# Altium integrated library Micron Memory Parallel NOR Flash.IntLib: 720 symbols (part 110 of 216)
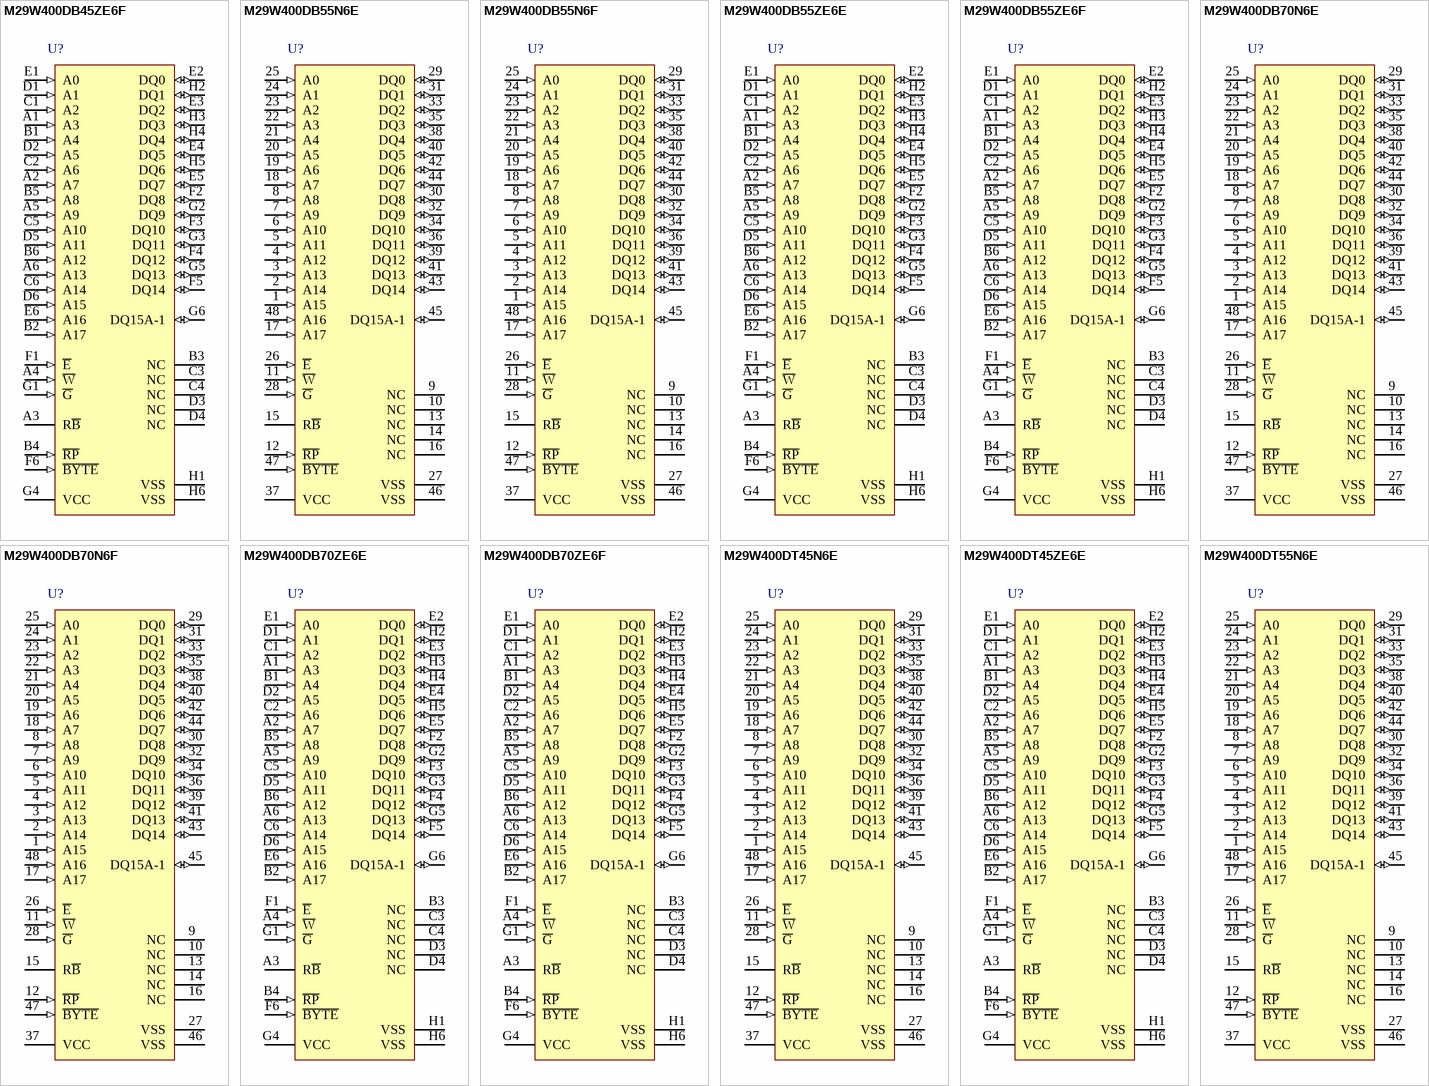
[diagram p153: symbols M29W400DB45ZE6F to M29W400DT55N6E]

## M29W400DB70ZE6E
designator U?
4 Mb (x8/x16) Parallel NOR Flash Memory, 70 ns, 2.7 to 3.6 V, 48-ball TFBGA (ZE), Tray; Part Family: M29W; Manufacturer: Micron; PartNumber: M29W400DB70ZE6E; Density: 4Mb; Op Temp: -40C to +85C; Speed: 70ns; Voltage: 2.7V-3.6V; DatasheetVersion: Rev. 8; PackageVersion: Rev 11; PackageReference: MICT-ZE-48; PackageDescription: 48-Ball TFBGA, 8 X 6 mm, Pitch 0.8 mm; RoHS: Yes; Width: x8/x16; Mounting Technology: Surface Mount; ComponentLink1Description: Manufacturer URL; ComponentLink1URL: http://www.micron.com/; ComponentLink2Description: Datasheet; ComponentLink2URL: http://www.micron.com/~/media/Documents/Products/Data%20Sheet/NOR%20Flash/Parallel/P33/208034_P33_65nm_SBC_64M_128M_Discrete_DS.pdf; ComponentLink3Description: Package Specification; ComponentLink3URL: http://www.micron.com/~/media/Documents/Products/Data%20Sheet/NOR%20Flash/Parallel/P30/306666_P30_130nm_Discrete_DS.pdf
footprint MICT-ZE-48 (BGA, 48-Balls, Body 8x6mm, Pitch 0.8 mm)
pins: A1 A3 (in) "Address input: The Address input select the cells in the memory array to access during Bus Read operations. During Bus Write operations they control the commands sent to the command interface of the Program/Erase controller.", A2 A7 (in) "Address input: The Address input select the cells in the memory array to access during Bus Read operations. During Bus Write operations they control the commands sent to the command interface of the Program/Erase controller.", A3 R~{B} (hiz) "Ready/Busy output: The Ready/Busy pin is an open-drain output that can be used to identify when the memory array can be read. Ready/Busy is high-impedance during Read mode, Auto Select mode and Erase Suspend mode. After a (See Datasheet)", A4 ~{W} (in) "Write Enable: The Write Enable, W\, controls the Bus Write operation of the memory’s command interface.", A5 A9 (in) "Address input: The Address input select the cells in the memory array to access during Bus Read operations. During Bus Write operations they control the commands sent to the command interface of the Program/Erase controller.", A6 A13 (in) "Address input: The Address input select the cells in the memory array to access during Bus Read operations. During Bus Write operations they control the commands sent to the command interface of the Program/Erase controller.", B1 A4 (in) "Address input: The Address input select the cells in the memory array to access during Bus Read operations. During Bus Write operations they control the commands sent to the command interface of the Program/Erase controller.", B2 A17 (in) "Address input: The Address input select the cells in the memory array to access during Bus Read operations. During Bus Write operations they control the commands sent to the command interface of the Program/Erase controller.", B3 NC "Not connected.", B4 ~{RP} (in) "Reset/Block Temporary Unprotect: The Reset/Block Temporary Unprotect pin can be used to apply a hardware reset to the memory or to temporarily unprotect all blocks that have been protected. A hardware reset is achieved by (See Datasheet)", B5 A8 (in) "Address input: The Address input select the cells in the memory array to access during Bus Read operations. During Bus Write operations they control the commands sent to the command interface of the Program/Erase controller.", B6 A12 (in) "Address input: The Address input select the cells in the memory array to access during Bus Read operations. During Bus Write operations they control the commands sent to the command interface of the Program/Erase controller.", C1 A2 (in) "Address input: The Address input select the cells in the memory array to access during Bus Read operations. During Bus Write operations they control the commands sent to the command interface of the Program/Erase controller.", C2 A6 (in) "Address input: The Address input select the cells in the memory array to access during Bus Read operations. During Bus Write operations they control the commands sent to the command interface of the Program/Erase controller.", C3 NC "Not connected.", C4 NC "Not connected.", C5 A10 (in) "Address input: The Address input select the cells in the memory array to access during Bus Read operations. During Bus Write operations they control the commands sent to the command interface of the Program/Erase controller.", C6 A14 (in) "Address input: The Address input select the cells in the memory array to access during Bus Read operations. During Bus Write operations they control the commands sent to the command interface of the Program/Erase controller.", D1 A1 (in) "Address Input: The Address Input select the cells in the memory array to access during Bus Read operations. During Bus Write operations they control the commands sent to the command interface of the Program/Erase controller.", D2 A5 (in) "Address input: The Address input select the cells in the memory array to access during Bus Read operations. During Bus Write operations they control the commands sent to the command interface of the Program/Erase controller.", D3 NC "Not connected.", D4 NC "Not connected.", D5 A11 (in) "Address input: The Address input select the cells in the memory array to access during Bus Read operations. During Bus Write operations they control the commands sent to the command interface of the Program/Erase controller.", D6 A15 (in) "Address input: The Address input select the cells in the memory array to access during Bus Read operations. During Bus Write operations they control the commands sent to the command interface of the Program/Erase controller.", E1 A0 (in) "Address input: The Address input select the cells in the memory array to access during Bus Read operations. During Bus Write operations they control the commands sent to the command interface of the Program/Erase controller.", E2 DQ0 (io) "Data input/output: The Data input/output output the data stored at the selected address during a Bus Read operation. During Bus Write operations they represent the commands sent to the command interface of the Program/Erase (See Datasheet)", E3 DQ2 (io) "Data input/output: The Data input/output output the data stored at the selected address during a Bus Read operation. During Bus Write operations they represent the commands sent to the command interface of the Program/Erase (See Datasheet)", E4 DQ5 (io) "Data input/output: The Data input/output output the data stored at the selected address during a Bus Read operation. During Bus Write operations they represent the commands sent to the command interface of the Program/Erase (See Datasheet)", E5 DQ7 (io) "Data input/output: The Data input/output output the data stored at the selected address during a Bus Read operation. During Bus Write operations they represent the commands sent to the command interface of the Program/Erase (See Datasheet)", E6 A16 (in) "Address input: The Address input select the cells in the memory array to access during Bus Read operations. During Bus Write operations they control the commands sent to the command interface of the Program/Erase controller.", F1 ~{E} (in) "Chip Enable: The Chip Enable, E\, activates the memory, allowing Bus Read and Bus Write operations to be performed. When Chip Enable is High, VIH, all other pins are ignored.", F2 DQ8 (io) "Data input/output: The Data input/output output the data stored at the selected address during a Bus Read operation when B\Y\T\E\ is High, VIH. When B\Y\T\E\ is Low, VIL, these pins are not used and are high impedance. (See Datasheet)", F3 DQ10 (io) "Data input/output: The Data input/output output the data stored at the selected address during a Bus Read operation when B\Y\T\E\ is High, VIH. When B\Y\T\E\ is Low, VIL, these pins are not used and are high impedance. (See Datasheet)", F4 DQ12 (io) "Data input/output: The Data input/output output the data stored at the selected address during a Bus Read operation when B\Y\T\E\ is High, VIH. When B\Y\T\E\ is Low, VIL, these pins are not used and are high impedance. (See Datasheet)", F5 DQ14 (io) "Data input/output: The Data input/output output the data stored at the selected address during a Bus Read operation when B\Y\T\E\ is High, VIH. When B\Y\T\E\ is Low, VIL, these pins are not used and are high impedance. (See Datasheet)", F6 ~{BYTE} (in) "Byte/Word Organization Select: The Byte/Word Organization Select pin is used to switch between the 8-bit and 16-bit Bus modes of the memory. When Byte/Word Organization Select is Low, VIL, the memory is in 8- bit mode, when (See Datasheet)", G1 ~{G} (in) "Output Enable: The Output Enable, G\, controls the Bus Read operation of the memory.", G2 DQ9 (io) "Data input/output: The Data input/output output the data stored at the selected address during a Bus Read operation when B\Y\T\E\ is High, VIH. When B\Y\T\E\ is Low, VIL, these pins are not used and are high impedance. (See Datasheet)", G3 DQ11 (io) "Data input/output: The Data input/output output the data stored at the selected address during a Bus Read operation when B\Y\T\E\ is High, VIH. When B\Y\T\E\ is Low, VIL, these pins are not used and are high impedance. (See Datasheet)", G4 VCC (power) "VCC supply voltage: The VCC supply voltage supplies the power for all operations (Read, Program, Erase etc.). The command interface is disabled when the VCC supply voltage is less than the lockout voltage, VLKO. This (See Datasheet)", G5 DQ13 (io) "Data input/output: The Data input/output output the data stored at the selected address during a Bus Read operation when B\Y\T\E\ is High, VIH. When B\Y\T\E\ is Low, VIL, these pins are not used and are high impedance. (See Datasheet)", G6 DQ15A-1 (io) "Data input/output or Address input: When B\Y\T\E\ is High, VIH, this pin behaves as a Data input/output pin (as DQ8-DQ14). When B\Y\T\E\ is Low, VIL, this pin behaves as an address pin; DQ15A-1 Low will select the LSB of the (See Datasheet)", H1 VSS (power) "VSS ground: The VSS ground is the reference for all voltage measurements.", H2 DQ1 (io) "Data input/output: The Data input/output output the data stored at the selected address during a Bus Read operation. During Bus Write operations they represent the commands sent to the command interface of the Program/Erase (See Datasheet)", H3 DQ3 (io) "Data input/output: The Data input/output output the data stored at the selected address during a Bus Read operation. During Bus Write operations they represent the commands sent to the command interface of the Program/Erase (See Datasheet)", H4 DQ4 (io) "Data input/output: The Data input/output output the data stored at the selected address during a Bus Read operation. During Bus Write operations they represent the commands sent to the command interface of the Program/Erase (See Datasheet)", H5 DQ6 (io) "Data input/output: The Data input/output output the data stored at the selected address during a Bus Read operation. During Bus Write operations they represent the commands sent to the command interface of the Program/Erase (See Datasheet)", H6 VSS (power) "VSS ground: The VSS ground is the reference for all voltage measurements."

## M29W400DB70ZE6F
designator U?
4 Mb (x8/x16) Parallel NOR Flash Memory, 70 ns, 2.7 to 3.6 V, 48-ball TFBGA (ZE), Tape & Reel; Part Family: M29W; Manufacturer: Micron; PartNumber: M29W400DB70ZE6F; Density: 4Mb; Op Temp: -40C to +85C; Speed: 70ns; Voltage: 2.7V-3.6V; DatasheetVersion: Rev. 8; PackageVersion: Rev 11; PackageReference: MICT-ZE-48; PackageDescription: 48-Ball TFBGA, 8 X 6 mm, Pitch 0.8 mm; RoHS: Yes; Width: x8/x16; Mounting Technology: Surface Mount; ComponentLink1Description: Manufacturer URL; ComponentLink1URL: http://www.micron.com/; ComponentLink2Description: Datasheet; ComponentLink2URL: http://www.micron.com/~/media/Documents/Products/Data%20Sheet/NOR%20Flash/Parallel/P33/208034_P33_65nm_SBC_64M_128M_Discrete_DS.pdf; ComponentLink3Description: Package Specification; ComponentLink3URL: http://www.micron.com/~/media/Documents/Products/Data%20Sheet/NOR%20Flash/Parallel/P30/306666_P30_130nm_Discrete_DS.pdf
footprint MICT-ZE-48 (BGA, 48-Balls, Body 8x6mm, Pitch 0.8 mm)
pins: A1 A3 (in) "Address input: The Address input select the cells in the memory array to access during Bus Read operations. During Bus Write operations they control the commands sent to the command interface of the Program/Erase controller.", A2 A7 (in) "Address input: The Address input select the cells in the memory array to access during Bus Read operations. During Bus Write operations they control the commands sent to the command interface of the Program/Erase controller.", A3 R~{B} (hiz) "Ready/Busy output: The Ready/Busy pin is an open-drain output that can be used to identify when the memory array can be read. Ready/Busy is high-impedance during Read mode, Auto Select mode and Erase Suspend mode. After a (See Datasheet)", A4 ~{W} (in) "Write Enable: The Write Enable, W\, controls the Bus Write operation of the memory’s command interface.", A5 A9 (in) "Address input: The Address input select the cells in the memory array to access during Bus Read operations. During Bus Write operations they control the commands sent to the command interface of the Program/Erase controller.", A6 A13 (in) "Address input: The Address input select the cells in the memory array to access during Bus Read operations. During Bus Write operations they control the commands sent to the command interface of the Program/Erase controller.", B1 A4 (in) "Address input: The Address input select the cells in the memory array to access during Bus Read operations. During Bus Write operations they control the commands sent to the command interface of the Program/Erase controller.", B2 A17 (in) "Address input: The Address input select the cells in the memory array to access during Bus Read operations. During Bus Write operations they control the commands sent to the command interface of the Program/Erase controller.", B3 NC "Not connected.", B4 ~{RP} (in) "Reset/Block Temporary Unprotect: The Reset/Block Temporary Unprotect pin can be used to apply a hardware reset to the memory or to temporarily unprotect all blocks that have been protected. A hardware reset is achieved by (See Datasheet)", B5 A8 (in) "Address input: The Address input select the cells in the memory array to access during Bus Read operations. During Bus Write operations they control the commands sent to the command interface of the Program/Erase controller.", B6 A12 (in) "Address input: The Address input select the cells in the memory array to access during Bus Read operations. During Bus Write operations they control the commands sent to the command interface of the Program/Erase controller.", C1 A2 (in) "Address input: The Address input select the cells in the memory array to access during Bus Read operations. During Bus Write operations they control the commands sent to the command interface of the Program/Erase controller.", C2 A6 (in) "Address input: The Address input select the cells in the memory array to access during Bus Read operations. During Bus Write operations they control the commands sent to the command interface of the Program/Erase controller.", C3 NC "Not connected.", C4 NC "Not connected.", C5 A10 (in) "Address input: The Address input select the cells in the memory array to access during Bus Read operations. During Bus Write operations they control the commands sent to the command interface of the Program/Erase controller.", C6 A14 (in) "Address input: The Address input select the cells in the memory array to access during Bus Read operations. During Bus Write operations they control the commands sent to the command interface of the Program/Erase controller.", D1 A1 (in) "Address Input: The Address Input select the cells in the memory array to access during Bus Read operations. During Bus Write operations they control the commands sent to the command interface of the Program/Erase controller.", D2 A5 (in) "Address input: The Address input select the cells in the memory array to access during Bus Read operations. During Bus Write operations they control the commands sent to the command interface of the Program/Erase controller.", D3 NC "Not connected.", D4 NC "Not connected.", D5 A11 (in) "Address input: The Address input select the cells in the memory array to access during Bus Read operations. During Bus Write operations they control the commands sent to the command interface of the Program/Erase controller.", D6 A15 (in) "Address input: The Address input select the cells in the memory array to access during Bus Read operations. During Bus Write operations they control the commands sent to the command interface of the Program/Erase controller.", E1 A0 (in) "Address input: The Address input select the cells in the memory array to access during Bus Read operations. During Bus Write operations they control the commands sent to the command interface of the Program/Erase controller.", E2 DQ0 (io) "Data input/output: The Data input/output output the data stored at the selected address during a Bus Read operation. During Bus Write operations they represent the commands sent to the command interface of the Program/Erase (See Datasheet)", E3 DQ2 (io) "Data input/output: The Data input/output output the data stored at the selected address during a Bus Read operation. During Bus Write operations they represent the commands sent to the command interface of the Program/Erase (See Datasheet)", E4 DQ5 (io) "Data input/output: The Data input/output output the data stored at the selected address during a Bus Read operation. During Bus Write operations they represent the commands sent to the command interface of the Program/Erase (See Datasheet)", E5 DQ7 (io) "Data input/output: The Data input/output output the data stored at the selected address during a Bus Read operation. During Bus Write operations they represent the commands sent to the command interface of the Program/Erase (See Datasheet)", E6 A16 (in) "Address input: The Address input select the cells in the memory array to access during Bus Read operations. During Bus Write operations they control the commands sent to the command interface of the Program/Erase controller.", F1 ~{E} (in) "Chip Enable: The Chip Enable, E\, activates the memory, allowing Bus Read and Bus Write operations to be performed. When Chip Enable is High, VIH, all other pins are ignored.", F2 DQ8 (io) "Data input/output: The Data input/output output the data stored at the selected address during a Bus Read operation when B\Y\T\E\ is High, VIH. When B\Y\T\E\ is Low, VIL, these pins are not used and are high impedance. (See Datasheet)", F3 DQ10 (io) "Data input/output: The Data input/output output the data stored at the selected address during a Bus Read operation when B\Y\T\E\ is High, VIH. When B\Y\T\E\ is Low, VIL, these pins are not used and are high impedance. (See Datasheet)", F4 DQ12 (io) "Data input/output: The Data input/output output the data stored at the selected address during a Bus Read operation when B\Y\T\E\ is High, VIH. When B\Y\T\E\ is Low, VIL, these pins are not used and are high impedance. (See Datasheet)", F5 DQ14 (io) "Data input/output: The Data input/output output the data stored at the selected address during a Bus Read operation when B\Y\T\E\ is High, VIH. When B\Y\T\E\ is Low, VIL, these pins are not used and are high impedance. (See Datasheet)", F6 ~{BYTE} (in) "Byte/Word Organization Select: The Byte/Word Organization Select pin is used to switch between the 8-bit and 16-bit Bus modes of the memory. When Byte/Word Organization Select is Low, VIL, the memory is in 8- bit mode, when (See Datasheet)", G1 ~{G} (in) "Output Enable: The Output Enable, G\, controls the Bus Read operation of the memory.", G2 DQ9 (io) "Data input/output: The Data input/output output the data stored at the selected address during a Bus Read operation when B\Y\T\E\ is High, VIH. When B\Y\T\E\ is Low, VIL, these pins are not used and are high impedance. (See Datasheet)", G3 DQ11 (io) "Data input/output: The Data input/output output the data stored at the selected address during a Bus Read operation when B\Y\T\E\ is High, VIH. When B\Y\T\E\ is Low, VIL, these pins are not used and are high impedance. (See Datasheet)", G4 VCC (power) "VCC supply voltage: The VCC supply voltage supplies the power for all operations (Read, Program, Erase etc.). The command interface is disabled when the VCC supply voltage is less than the lockout voltage, VLKO. This (See Datasheet)", G5 DQ13 (io) "Data input/output: The Data input/output output the data stored at the selected address during a Bus Read operation when B\Y\T\E\ is High, VIH. When B\Y\T\E\ is Low, VIL, these pins are not used and are high impedance. (See Datasheet)", G6 DQ15A-1 (io) "Data input/output or Address input: When B\Y\T\E\ is High, VIH, this pin behaves as a Data input/output pin (as DQ8-DQ14). When B\Y\T\E\ is Low, VIL, this pin behaves as an address pin; DQ15A-1 Low will select the LSB of the (See Datasheet)", H1 VSS (power) "VSS ground: The VSS ground is the reference for all voltage measurements.", H2 DQ1 (io) "Data input/output: The Data input/output output the data stored at the selected address during a Bus Read operation. During Bus Write operations they represent the commands sent to the command interface of the Program/Erase (See Datasheet)", H3 DQ3 (io) "Data input/output: The Data input/output output the data stored at the selected address during a Bus Read operation. During Bus Write operations they represent the commands sent to the command interface of the Program/Erase (See Datasheet)", H4 DQ4 (io) "Data input/output: The Data input/output output the data stored at the selected address during a Bus Read operation. During Bus Write operations they represent the commands sent to the command interface of the Program/Erase (See Datasheet)", H5 DQ6 (io) "Data input/output: The Data input/output output the data stored at the selected address during a Bus Read operation. During Bus Write operations they represent the commands sent to the command interface of the Program/Erase (See Datasheet)", H6 VSS (power) "VSS ground: The VSS ground is the reference for all voltage measurements."

## M29W400DT45N6E
designator U?
4 Mb (x8/x16) Parallel NOR Flash Memory, 45 ns, 2.7 to 3.6 V, 48-pin TSOP (N), Tray; Part Family: M29W; Manufacturer: Micron; PartNumber: M29W400DT45N6E; Density: 4Mb; Op Temp: -40C to +85C; Speed: 45ns; Voltage: 2.7V-3.6V; DatasheetVersion: Rev. 8; PackageVersion: Rev 11; PackageReference: MICT-N-48; PackageDescription: 48-Pin TSOP, 18.4 X 12 mm, Pitch 0.5 mm; RoHS: Yes; Width: x8/x16; Mounting Technology: Surface Mount; ComponentLink1Description: Manufacturer URL; ComponentLink1URL: http://www.micron.com/; ComponentLink2Description: Datasheet; ComponentLink2URL: http://www.micron.com/~/media/Documents/Products/Data%20Sheet/NOR%20Flash/Parallel/P33/208034_P33_65nm_SBC_64M_128M_Discrete_DS.pdf; ComponentLink3Description: Package Specification; ComponentLink3URL: http://www.micron.com/~/media/Documents/Products/Data%20Sheet/NOR%20Flash/Parallel/P30/306666_P30_130nm_Discrete_DS.pdf
footprint MICT-N-48_N (SOP, 48-Leads, Body 12x18.4mm, Pitch 0.5mm, IPC Medium Density)
pins: 1 A15 (in) "The Address Input select the cells in the memory array to access during Bus Read  operations. During Bus Write operations they control the commands sent to the command  interface of the Program/Erase controller.", 2 A14 (in) "The Address Input select the cells in the memory array to access during Bus Read  operations. During Bus Write operations they control the commands sent to the command  interface of the Program/Erase controller.", 3 A13 (in) "The Address Input select the cells in the memory array to access during Bus Read  operations. During Bus Write operations they control the commands sent to the command  interface of the Program/Erase controller.", 4 A12 (in) "The Address Input select the cells in the memory array to access during Bus Read  operations. During Bus Write operations they control the commands sent to the command  interface of the Program/Erase controller.", 5 A11 (in) "The Address Input select the cells in the memory array to access during Bus Read  operations. During Bus Write operations they control the commands sent to the command  interface of the Program/Erase controller.", 6 A10 (in) "The Address Input select the cells in the memory array to access during Bus Read  operations. During Bus Write operations they control the commands sent to the command  interface of the Program/Erase controller.", 7 A9 (in) "The Address Input select the cells in the memory array to access during Bus Read  operations. During Bus Write operations they control the commands sent to the command  interface of the Program/Erase controller.", 8 A8 (in) "The Address Input select the cells in the memory array to access during Bus Read  operations. During Bus Write operations they control the commands sent to the command  interface of the Program/Erase controller.", 9 NC "Not connected internally", 10 NC "Not connected internally", 11 ~{W} (in) "The Write Enable, W\, controls the Bus Write operation of the memory’s command interface.", 12 ~{RP} (in) "The Reset/Block Temporary Unprotect pin can be used to apply a hardware reset to the  memory or to temporarily unprotect all blocks that have been protected.", 13 NC "Not connected internally", 14 NC "Not connected internally", 15 R~{B} (hiz) "The Ready/Busy pin is an open-drain output that can be used to identify when the memory  array can be read. Ready/Busy is high-impedance during Read mode, Auto Select mode  and Erase Suspend mode.", 16 NC "Not connected internally", 17 A17 (in) "The Address Input select the cells in the memory array to access during Bus Read  operations. During Bus Write operations they control the commands sent to the command  interface of the Program/Erase controller.", 18 A7 (in) "The Address Input select the cells in the memory array to access during Bus Read  operations. During Bus Write operations they control the commands sent to the command  interface of the Program/Erase controller.", 19 A6 (in) "The Address Input select the cells in the memory array to access during Bus Read  operations. During Bus Write operations they control the commands sent to the command  interface of the Program/Erase controller.", 20 A5 (in) "The Address Input select the cells in the memory array to access during Bus Read  operations. During Bus Write operations they control the commands sent to the command  interface of the Program/Erase controller.", 21 A4 (in) "The Address Input select the cells in the memory array to access during Bus Read  operations. During Bus Write operations they control the commands sent to the command  interface of the Program/Erase controller.", 22 A3 (in) "The Address Input select the cells in the memory array to access during Bus Read  operations. During Bus Write operations they control the commands sent to the command  interface of the Program/Erase controller.", 23 A2 (in) "The Address Input select the cells in the memory array to access during Bus Read  operations. During Bus Write operations they control the commands sent to the command  interface of the Program/Erase controller.", 24 A1 (in) "The Address Input select the cells in the memory array to access during Bus Read  operations. During Bus Write operations they control the commands sent to the command  interface of the Program/Erase controller.", 25 A0 (in) "The Address Input select the cells in the memory array to access during Bus Read  operations. During Bus Write operations they control the commands sent to the command  interface of the Program/Erase controller.", 26 ~{E} (in) "The Chip Enable, E\, activates the memory, allowing Bus Read and Bus Write operations to  be performed. When Chip Enable is High, VIH, all other pins are ignored.", 27 VSS (power) "The VSS ground is the reference for all voltage measurements.", 28 ~{G} (in) "The Output Enable, G\, controls the Bus Read operation of the memory.", 29 DQ0 (io) "The Data Input/Output output the data stored at the selected address during a Bus Read  operation. During Bus Write operations they represent the commands sent to the command  interface of the Program/Erase controller.", 30 DQ8 (io) "The Data input/output output the data stored at the selected address during a Bus Read  operation when B\Y\T\E\ is High, VIH. When B\Y\T\E\ is Low, VIL , these pins are not used and are  high impedance. During Bus Write (See Datasheet)", 31 DQ1 (io) "The Data inputs/Output output the data stored at the selected address during a Bus Read  operation. During Bus Write operations they represent the commands sent to the command  interface of the Program/Erase controller.", 32 DQ9 (io) "The Data input/output output the data stored at the selected address during a Bus Read  operation when B\Y\T\E \is High, VIH. When B\Y\T\E\ is Low, VIL , these pins are not used and are  high impedance. During Bus Write (See Datasheet)", 33 DQ2 (io) "The Data input/Output output the data stored at the selected address during a Bus Read  operation. During Bus Write operations they represent the commands sent to the command  interface of the Program/Erase controller.", 34 DQ10 (io) "The Data inputs/outputs output the data stored at the selected address during a Bus Read  operation when B\Y\T\E\ is High, VIH. When B\Y\T\E\ is Low, VIL , these pins are not used and are  high impedance. During Bus Write (See Datasheet)", 35 DQ3 (io) "The Data input/outputs output the data stored at the selected address during a Bus Read  operation. During Bus Write operations they represent the commands sent to the command  interface of the Program/Erase controller.", 36 DQ11 (io) "The Data inputs/outputs output the data stored at the selected address during a Bus Read  operation when B\Y\T\E\ is High, VIH. When B\Y\T\E\ is Low, VIL , these pins are not used and are  high impedance. During Bus Write (See Datasheet)", 37 VCC (power) "The VCC supply voltage supplies the power for all operations (Read, Program, Erase etc.).The command interface is disabled when the VCC supply voltage is less than the lockout  voltage, VLKO. This prevents Bus Write (See Datasheet)", 38 DQ4 (io) "The Data INPUT/OUTPUT OUTPUT the data stored at the selected address during a Bus Read  operation. During Bus Write operations they represent the commands sent to the command  interface of the Program/Erase controller.", 39 DQ12 (io) "The Data inputs/outputs output the data stored at the selected address during a Bus Read  operation when B\Y\T\E\ is High, VIH. When B\Y\T\E\ is Low, VIL , these pins are not used and are  high impedance. During Bus Write (See Datasheet)", 40 DQ5 (io) "The Data inputs/outputs output the data stored at the selected address during a Bus Read  operation. During Bus Write operations they represent the commands sent to the command  interface of the Program/Erase controller.", 41 DQ13 (io) "The Data input/output output the data stored at the selected address during a Bus Read  operation when B\Y\T\E\ is High, VIH. When B\Y\T\E\ is Low, VIL , these pins are not used and are  high impedance. During Bus Write (See Datasheet)", 42 DQ6 (io) "The Data input/output output the data stored at the selected address during a Bus Read  operation. During Bus Write operations they represent the commands sent to the command  interface of the Program/Erase controller.", 43 DQ14 (io) "The Data input/output output the data stored at the selected address during a Bus Read  operation when B\Y\T\E\ is High, VIH. When B\Y\T\E\ is Low, VIL , these pins are not used and are  high impedance. During Bus Write (See Datasheet)", 44 DQ7 (io) "The Data inputs/outputs output the data stored at the selected address during a Bus Read  operation. During Bus Write operations they represent the commands sent to the command  interface of the Program/Erase controller.", 45 DQ15A-1 (io) "When B\Y\T\E\ is High, VIH, this pin behaves as a Data input/output pin (as DQ8-DQ14). When  B\Y\T\E\ is Low, VIL , this pin behaves as an address pin; DQ15A-1 Low will select the LSB of  the word on the other addresses, (See Datasheet)", 46 VSS (power) "The VSS ground is the reference for all voltage measurements.", 47 ~{BYTE} (in) "The Byte/Word Organization Select pin is used to switch between the 8-bit and 16-bit Bus  modes of the memory. When Byte/Word Organization Select is Low, VIL , the memory is in 8- bit mode, when it is High, VIH, the memory (See Datasheet)", 48 A16 (in) "The Address Input select the cells in the memory array to access during Bus Read  operations. During Bus Write operations they control the commands sent to the command  interface of the Program/Erase controller."

## M29W400DT45ZE6E
designator U?
4 Mb (x8/x16) Parallel NOR Flash Memory, 45 ns, 2.7 to 3.6 V, 48-ball TFBGA (ZE), Tray; Part Family: M29W; Manufacturer: Micron; PartNumber: M29W400DT45ZE6E; Density: 4Mb; Op Temp: -40C to +85C; Speed: 45ns; Voltage: 2.7V-3.6V; DatasheetVersion: Rev. 8; PackageVersion: Rev 11; PackageReference: MICT-ZE-48; PackageDescription: 48-Ball TFBGA, 8 X 6 mm, Pitch 0.8 mm; RoHS: Yes; Width: x8/x16; Mounting Technology: Surface Mount; ComponentLink1Description: Manufacturer URL; ComponentLink1URL: http://www.micron.com/; ComponentLink2Description: Datasheet; ComponentLink2URL: http://www.micron.com/~/media/Documents/Products/Data%20Sheet/NOR%20Flash/Parallel/P33/208034_P33_65nm_SBC_64M_128M_Discrete_DS.pdf; ComponentLink3Description: Package Specification; ComponentLink3URL: http://www.micron.com/~/media/Documents/Products/Data%20Sheet/NOR%20Flash/Parallel/P30/306666_P30_130nm_Discrete_DS.pdf
footprint MICT-ZE-48 (BGA, 48-Balls, Body 8x6mm, Pitch 0.8 mm)
pins: A1 A3 (in) "Address input: The Address input select the cells in the memory array to access during Bus Read operations. During Bus Write operations they control the commands sent to the command interface of the Program/Erase controller.", A2 A7 (in) "Address input: The Address input select the cells in the memory array to access during Bus Read operations. During Bus Write operations they control the commands sent to the command interface of the Program/Erase controller.", A3 R~{B} (hiz) "Ready/Busy output: The Ready/Busy pin is an open-drain output that can be used to identify when the memory array can be read. Ready/Busy is high-impedance during Read mode, Auto Select mode and Erase Suspend mode. After a (See Datasheet)", A4 ~{W} (in) "Write Enable: The Write Enable, W\, controls the Bus Write operation of the memory’s command interface.", A5 A9 (in) "Address input: The Address input select the cells in the memory array to access during Bus Read operations. During Bus Write operations they control the commands sent to the command interface of the Program/Erase controller.", A6 A13 (in) "Address input: The Address input select the cells in the memory array to access during Bus Read operations. During Bus Write operations they control the commands sent to the command interface of the Program/Erase controller.", B1 A4 (in) "Address input: The Address input select the cells in the memory array to access during Bus Read operations. During Bus Write operations they control the commands sent to the command interface of the Program/Erase controller.", B2 A17 (in) "Address input: The Address input select the cells in the memory array to access during Bus Read operations. During Bus Write operations they control the commands sent to the command interface of the Program/Erase controller.", B3 NC "Not connected.", B4 ~{RP} (in) "Reset/Block Temporary Unprotect: The Reset/Block Temporary Unprotect pin can be used to apply a hardware reset to the memory or to temporarily unprotect all blocks that have been protected. A hardware reset is achieved by (See Datasheet)", B5 A8 (in) "Address input: The Address input select the cells in the memory array to access during Bus Read operations. During Bus Write operations they control the commands sent to the command interface of the Program/Erase controller.", B6 A12 (in) "Address input: The Address input select the cells in the memory array to access during Bus Read operations. During Bus Write operations they control the commands sent to the command interface of the Program/Erase controller.", C1 A2 (in) "Address input: The Address input select the cells in the memory array to access during Bus Read operations. During Bus Write operations they control the commands sent to the command interface of the Program/Erase controller.", C2 A6 (in) "Address input: The Address input select the cells in the memory array to access during Bus Read operations. During Bus Write operations they control the commands sent to the command interface of the Program/Erase controller.", C3 NC "Not connected.", C4 NC "Not connected.", C5 A10 (in) "Address input: The Address input select the cells in the memory array to access during Bus Read operations. During Bus Write operations they control the commands sent to the command interface of the Program/Erase controller.", C6 A14 (in) "Address input: The Address input select the cells in the memory array to access during Bus Read operations. During Bus Write operations they control the commands sent to the command interface of the Program/Erase controller.", D1 A1 (in) "Address Input: The Address Input select the cells in the memory array to access during Bus Read operations. During Bus Write operations they control the commands sent to the command interface of the Program/Erase controller.", D2 A5 (in) "Address input: The Address input select the cells in the memory array to access during Bus Read operations. During Bus Write operations they control the commands sent to the command interface of the Program/Erase controller.", D3 NC "Not connected.", D4 NC "Not connected.", D5 A11 (in) "Address input: The Address input select the cells in the memory array to access during Bus Read operations. During Bus Write operations they control the commands sent to the command interface of the Program/Erase controller.", D6 A15 (in) "Address input: The Address input select the cells in the memory array to access during Bus Read operations. During Bus Write operations they control the commands sent to the command interface of the Program/Erase controller.", E1 A0 (in) "Address input: The Address input select the cells in the memory array to access during Bus Read operations. During Bus Write operations they control the commands sent to the command interface of the Program/Erase controller.", E2 DQ0 (io) "Data input/output: The Data input/output output the data stored at the selected address during a Bus Read operation. During Bus Write operations they represent the commands sent to the command interface of the Program/Erase (See Datasheet)", E3 DQ2 (io) "Data input/output: The Data input/output output the data stored at the selected address during a Bus Read operation. During Bus Write operations they represent the commands sent to the command interface of the Program/Erase (See Datasheet)", E4 DQ5 (io) "Data input/output: The Data input/output output the data stored at the selected address during a Bus Read operation. During Bus Write operations they represent the commands sent to the command interface of the Program/Erase (See Datasheet)", E5 DQ7 (io) "Data input/output: The Data input/output output the data stored at the selected address during a Bus Read operation. During Bus Write operations they represent the commands sent to the command interface of the Program/Erase (See Datasheet)", E6 A16 (in) "Address input: The Address input select the cells in the memory array to access during Bus Read operations. During Bus Write operations they control the commands sent to the command interface of the Program/Erase controller.", F1 ~{E} (in) "Chip Enable: The Chip Enable, E\, activates the memory, allowing Bus Read and Bus Write operations to be performed. When Chip Enable is High, VIH, all other pins are ignored.", F2 DQ8 (io) "Data input/output: The Data input/output output the data stored at the selected address during a Bus Read operation when B\Y\T\E\ is High, VIH. When B\Y\T\E\ is Low, VIL, these pins are not used and are high impedance. (See Datasheet)", F3 DQ10 (io) "Data input/output: The Data input/output output the data stored at the selected address during a Bus Read operation when B\Y\T\E\ is High, VIH. When B\Y\T\E\ is Low, VIL, these pins are not used and are high impedance. (See Datasheet)", F4 DQ12 (io) "Data input/output: The Data input/output output the data stored at the selected address during a Bus Read operation when B\Y\T\E\ is High, VIH. When B\Y\T\E\ is Low, VIL, these pins are not used and are high impedance. (See Datasheet)", F5 DQ14 (io) "Data input/output: The Data input/output output the data stored at the selected address during a Bus Read operation when B\Y\T\E\ is High, VIH. When B\Y\T\E\ is Low, VIL, these pins are not used and are high impedance. (See Datasheet)", F6 ~{BYTE} (in) "Byte/Word Organization Select: The Byte/Word Organization Select pin is used to switch between the 8-bit and 16-bit Bus modes of the memory. When Byte/Word Organization Select is Low, VIL, the memory is in 8- bit mode, when (See Datasheet)", G1 ~{G} (in) "Output Enable: The Output Enable, G\, controls the Bus Read operation of the memory.", G2 DQ9 (io) "Data input/output: The Data input/output output the data stored at the selected address during a Bus Read operation when B\Y\T\E\ is High, VIH. When B\Y\T\E\ is Low, VIL, these pins are not used and are high impedance. (See Datasheet)", G3 DQ11 (io) "Data input/output: The Data input/output output the data stored at the selected address during a Bus Read operation when B\Y\T\E\ is High, VIH. When B\Y\T\E\ is Low, VIL, these pins are not used and are high impedance. (See Datasheet)", G4 VCC (power) "VCC supply voltage: The VCC supply voltage supplies the power for all operations (Read, Program, Erase etc.). The command interface is disabled when the VCC supply voltage is less than the lockout voltage, VLKO. This (See Datasheet)", G5 DQ13 (io) "Data input/output: The Data input/output output the data stored at the selected address during a Bus Read operation when B\Y\T\E\ is High, VIH. When B\Y\T\E\ is Low, VIL, these pins are not used and are high impedance. (See Datasheet)", G6 DQ15A-1 (io) "Data input/output or Address input: When B\Y\T\E\ is High, VIH, this pin behaves as a Data input/output pin (as DQ8-DQ14). When B\Y\T\E\ is Low, VIL, this pin behaves as an address pin; DQ15A-1 Low will select the LSB of the (See Datasheet)", H1 VSS (power) "VSS ground: The VSS ground is the reference for all voltage measurements.", H2 DQ1 (io) "Data input/output: The Data input/output output the data stored at the selected address during a Bus Read operation. During Bus Write operations they represent the commands sent to the command interface of the Program/Erase (See Datasheet)", H3 DQ3 (io) "Data input/output: The Data input/output output the data stored at the selected address during a Bus Read operation. During Bus Write operations they represent the commands sent to the command interface of the Program/Erase (See Datasheet)", H4 DQ4 (io) "Data input/output: The Data input/output output the data stored at the selected address during a Bus Read operation. During Bus Write operations they represent the commands sent to the command interface of the Program/Erase (See Datasheet)", H5 DQ6 (io) "Data input/output: The Data input/output output the data stored at the selected address during a Bus Read operation. During Bus Write operations they represent the commands sent to the command interface of the Program/Erase (See Datasheet)", H6 VSS (power) "VSS ground: The VSS ground is the reference for all voltage measurements."